# Altium schematic symbol library 0603 RES.Schlib: 1 symbol
Pins are listed as number, name and electrical type; pins without a type are passive.

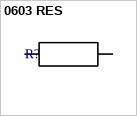
[diagram p0: symbol 0603 RES]

## 0603 RES
designator R?
Resistor
pins: 1, 2